# Altium footprint library dbmpcblub.PcbLib: 3 footprints
Each footprint in its own frame and in the unit in brackets; x right, y up, seen from the top. Pads: shape width x height; smd on the part's side, far side on the other; paste and mask are expansions set on the pad; w line width, h text height; cw(c..) or ccw(c..) is an arc to the next point about the centre after c.
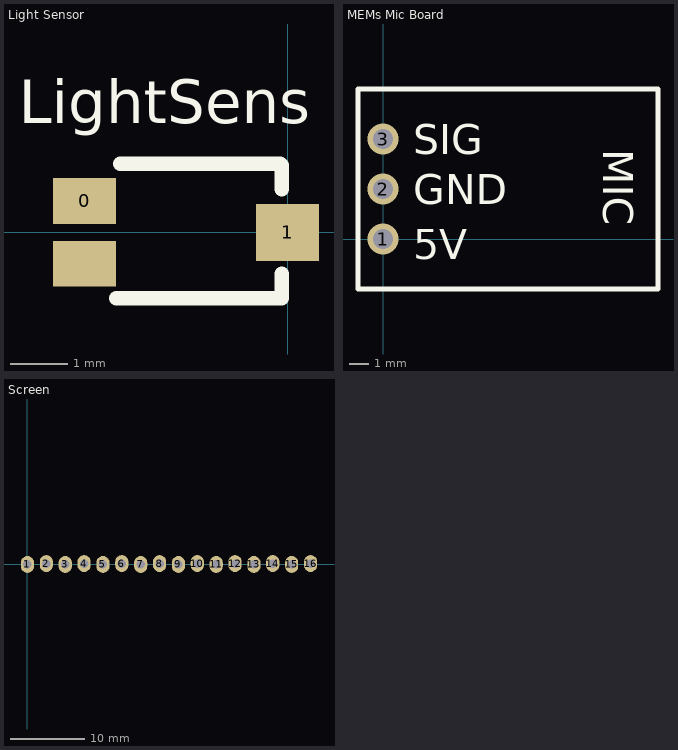
[diagram p0: the footprints below, top view; thin cyan lines are the x and y axes]

## Light Sensor [mm]
pads (3):
  rect 1.1x0.8 smd: 0(-3.55,0.55) ""(-3.55,-0.55)
  rect 1.1x1 smd: 1(0,0)
Top Overlay:
  lines w0.254: -3,-1.15 -0.1,-1.15 -0.1,-0.725 ; -2.925,1.2 -0.125,1.2 -0.1,1.175 -0.1,0.75
  text "LightSens" at -4.699,1.905 h0.76

## MEMs Mic Board [mm]
pads (3):
  round 1.6 hole 1: 1(0,0) 2(0,2.54) 3(0,5.08)
Top Overlay:
  lines w0.254: -1.27,-2.54 13.97,-2.54 ; -1.27,-2.54 13.97,-2.54 ; -1.27,-2.54 -1.27,7.62 13.97,7.62 13.97,-2.54
  text "5V" at 1.524,-1.016 h1.52
  text "GND" at 1.524,1.778 h1.52
  text "SIG" at 1.524,4.318 h1.52
  text "MIC" at 11.176,4.572 h1.52

## Screen [mil]
pads (16):
  oval 70x90 / inner round 60 / far side round 60 hole 45: 1(0,0) 2(100,5) 3(200,0) 4(300,5) 5(400,0) 6(500,5) 7(600,0) 8(700,5) 9(800,0) 10(900,5) 11(1000,0) 12(1100,5) 13(1200,0) 14(1300,5) 15(1400,0) 16(1500,5)
3D body "LCD.stp": height 348.03, standoff 60.63, extent -314.8,-1318.66 2834.8,98.66